# EAGLE library part NCP13992 (library my_ic)
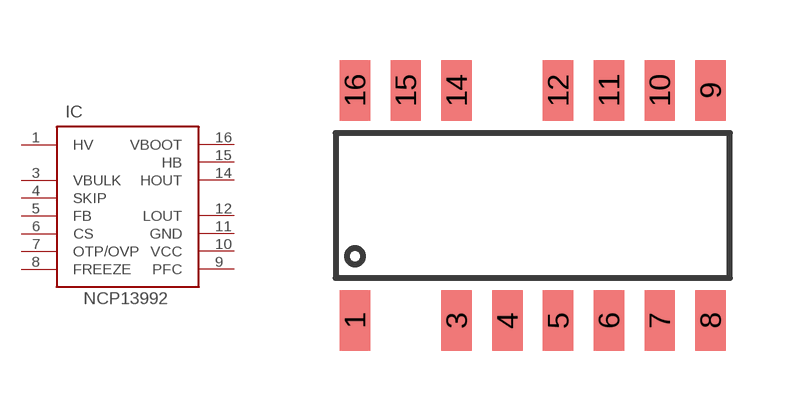
[diagram p31: symbol with the pads of SO16-NCP13992; footprint SO16-NCP13992]

Designator prefix IC

## NCP13992  [SO16-NCP13992]
1  HV  pwr
3  VBULK  in
4  SKIP  in
5  FB  in
6  CS  in
7  OTP/OVP
8  FREEZE
9  PFC  out
10  VCC  pwr
11  GND  pwr
12  LOUT  out
14  HOUT  out
15  HB  pwr
16  VBOOT  pwr

## Footprint SO16-NCP13992 (pad centres in mm)
PLASTIC SMALL-OUTLINES PACKAGE D (R-PDSO-G16) Source: http://focus.ti.com/lit/ds/symlink/ina2126.pdf
smd 0.762 x 1.524: 1 -4.445,-2.875; 3 -1.905,-2.875; 4 -0.635,-2.875; 5 0.635,-2.875; 6 1.905,-2.875; 7 3.175,-2.875; 8 4.445,-2.875; 9 4.445,2.875; 10 3.175,2.875; 11 1.905,2.875; 12 0.635,2.875; 14 -1.905,2.875; 15 -3.175,2.875; 16 -4.445,2.875